# EAGLE library part LY510ALH (library omc-archive)
LY510ALH z-Axis gyro Datasheet <http://www.st.com/stonline/products/literature/ds/15800/ly510alh.pdf>
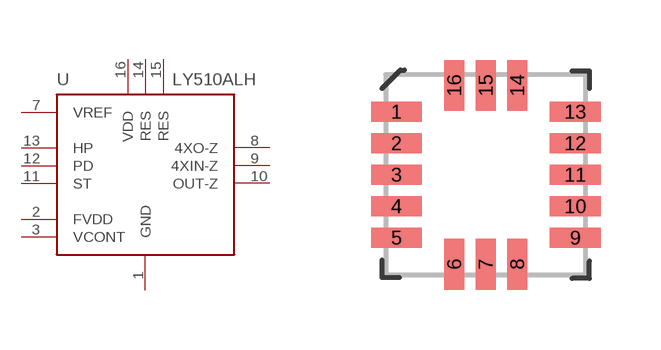
[diagram p3: symbol with the pads of LGA16; footprint LGA16]

Designator prefix U

## LY510ALH  [LGA16]
1  GND  pwr
2  FVDD  in
3  VCONT  in
7  VREF  out
8  4XO-Z  out
9  4XIN-Z  out
10  OUT-Z  out
11  ST  in
12  PD  in
13  HP  in
14  RES  pwr
15  RES  pwr
16  VDD  pwr

## Footprint LGA16 (pad centres in mm)
LGA16
smd 1.27 x 0.508: 1 -2.235,1.575; 2 -2.235,0.787; 3 -2.235,0; 4 -2.235,-0.787; 5 -2.235,-1.575; 9 2.235,-1.575; 10 2.235,-0.787; 11 2.235,0; 12 2.235,0.787; 13 2.235,1.575
smd 0.508 x 1.27: 6 -0.787,-2.235; 7 0,-2.235; 8 0.787,-2.235; 14 0.787,2.235; 15 0,2.235; 16 -0.787,2.235